# EAGLE library part ADC08100 (library kamiki)
8-Bit 100MSPS 1.3mW/MSPS Analog-to-Digital Converter
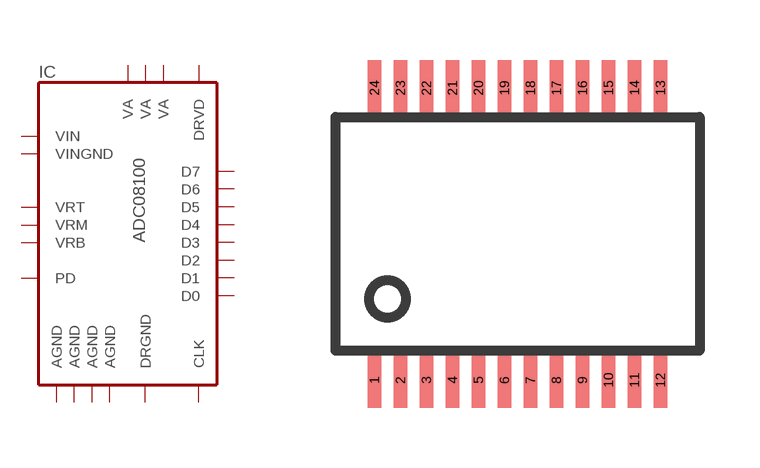
[diagram p6: symbol with the pads of TSSOP24; footprint TSSOP24]

Designator prefix IC

## ADC08100  [TSSOP24]
1  VA  pwr
2  AGND  pwr
3  VRT  pas
4  VA  pwr
5  AGND  pwr
6  VIN  in
7  VINGND  in
8  AGND  pwr
9  VRM  pas
10  VRB  pas
11  AGND  pwr
12  VA  pwr
13  D7  out
14  D6  out
15  D5  out
16  D4  out
17  DRGND  pwr
18  DRVD  pwr
19  D3  out
20  D2  out
21  D1  out
22  D0  out
23  PD  in
24  CLK  in

## Footprint TSSOP24 (pad centres in mm)
Small Shrink Outline Package
smd 0.348 x 1.397: 1 -3.575,-3.656; 2 -2.925,-3.656; 3 -2.275,-3.656; 4 -1.625,-3.656; 5 -0.975,-3.656; 6 -0.325,-3.656; 7 0.325,-3.656; 8 0.975,-3.656; 9 1.625,-3.656; 10 2.275,-3.656; 11 2.925,-3.656; 12 3.575,-3.656; 13 3.575,3.656; 14 2.925,3.656; 15 2.275,3.656; 16 1.625,3.656; 17 0.975,3.656; 18 0.325,3.656; 19 -0.325,3.656; 20 -0.975,3.656; 21 -1.625,3.656; 22 -2.275,3.656; 23 -2.925,3.656; 24 -3.575,3.656